# Altium schematic symbol library CR0805-FX-2212ELF.SchLib: 1 symbol
Pins are listed as number, name and electrical type; pins without a type are passive.

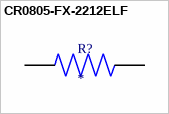
[diagram p0: symbol CR0805-FX-2212ELF]

## CR0805-FX-2212ELF
designator R?
22.1 kOhms Â±1% 0.125W, 1/8W Chip Resistor 0805 (2012 Metric) Moisture Resistant Thick Film; MF: Bourns; MP: CR0805-FX-2212ELF; SnapEDA_Link: https://www.snapeda.com/parts/CR0805-FX-2212ELF/Bourns/view-part/?ref=snap; Package: 0805 Bourns; Value: *; Check_prices: https://www.snapeda.com/parts/CR0805-FX-2212ELF/Bourns/view-part/?ref=eda
footprint RESC2012X60N
pins: 1, 2